# Altium schematic symbol library fuses.SchLib: 1 symbol
Pins are listed as number, name and electrical type; pins without a type are passive.

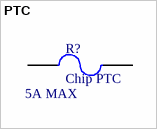
[diagram p0: symbol PTC]

## PTC
designator R?, comment Chip PTC  Itrip: 5A MAX
PTC
footprint 0603
footprint 0805
pins: 1, 2